# Altium schematic symbol library electromechanics.SchLib: 18 symbols
Pins are listed as number, name and electrical type; pins without a type are passive.

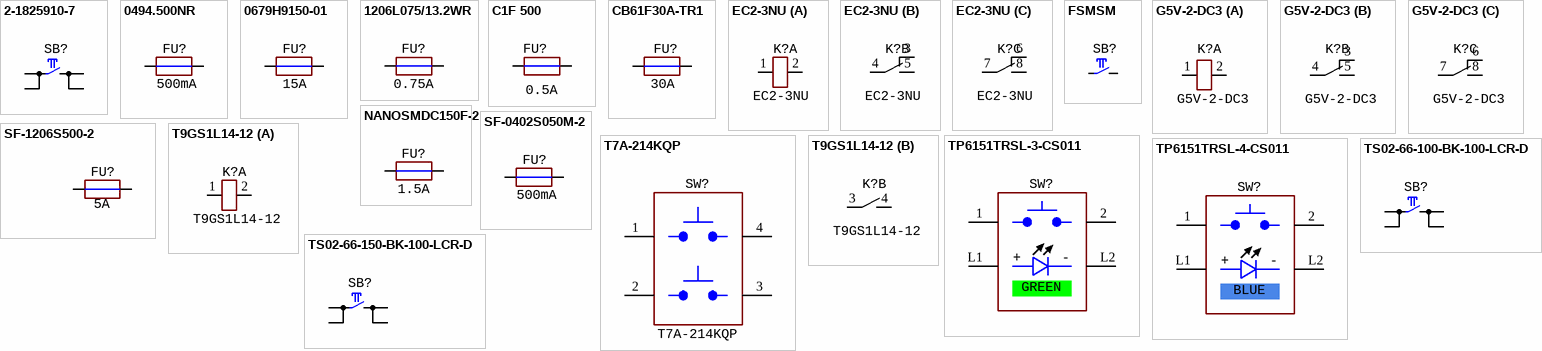
[diagram p0: symbols 2-1825910-7 to TS02-66-150-BK-100-LCR-D]

## 2-1825910-7
designator SB?  (value not drawn)
Tactile switch, OFF-(ON), 24VDC, 50 mA, 4 pins, 6x6x13 mm, -35...+85°C; Manufacturer: TE Connectivity / P&B; PartNumber: 2-1825910-7; Package: 4 pins, 6x6x13 mm; HelpURL: https://eu.mouser.com/ProductDetail/TE-Connectivity-PB/2-1825910-7?qs=epcAG6di8szpGFLvuwXKeQ%3D%3D
footprint 2-1825910-7 (Tactile switch, 6x6x13 mm)
pins: 1, 2, 3, 4

## 0494.500NR
designator FU?  value 500mA  (hidden comment: 0494.500NR)
0.5A, 32VDC, 187 mOhms, 0603, Slow, -55...125°C; Manufacturer: Littelfuse; Package: 0603; HelpURL: https://eu.mouser.com/ProductDetail/Littelfuse/0494.500NR?qs=zMpzAB%2FftDebMnrtAtzh%2Fg%3D%3D; PartNumber: 0494.500NR
footprint FUSE: 0603
pins: 1, 2

## 0679H9150-01
designator FU?  value 15A  (hidden comment: 0679H9150-01)
15A, 60VDC, 350VAC, 3.8 mOhms, -55...125°C; Manufacturer: BelFuse; Manufacturer: Bel; Package: 0679H series; HelpURL: 0679H9150-01; PartNumber: 0679H9150-01; Manufacturer Part Number: 0679H9150-01; Component Type: Electromechanics
footprint FUSE: 0679H (BelFuse)
pins: 1, 2

## 1206L075/13.2WR
designator FU?  value 0.75A  (hidden comment: 1206L075/13.2WR)
0.75A, 13.2VDC, 360 mOhms, 1206, Slow, -40...+85°C; Manufacturer: Littelfuse; HelpURL: https://www.mouser.com/ProductDetail/Littelfuse/1206L075-132WR?qs=%2Fha2pyFaduhK%252Bl84tFG2XSiBEPpGZF7PYzCqzETuC54lnigXEfxIwg%3D%3D; Package: 1206; PartNumber: 1206L075/13.2WR; Manufacturer Part Number: 1206L075/13.2WR; Component Type: Electromechanics
footprint RES: 1206
pins: 1, 2

## C1F 500
designator FU?  value 0.5A  (hidden comment: C1F 500)
0.5A, 63VDC, 870 mOhms, 1206, Fast, -55...+125°C; Manufacturer: BelFuse; Manufacturer: Bel TRP; Manufacturer Part Number: C1F500; PartNumber: C1F 500; HelpURL: https://www.mouser.com/ProductDetail/Bel-Fuse/C1F-500?qs=Mr%252BgrRYddfqgOaBmuwV7nw%3D%3D; Package: 1206; Component Type: Electromechanics
footprint RES: 1206
pins: 1, 2

## CB61F30A-TR1
designator FU?  value 30A  (hidden comment: CB61F30A-TR1)
30A, 72VDC, case 6125, 1.2 mOhms, -55...125°C; Manufacturer: BelFuse; Manufacturer: Eaton; HelpURL: https://ru.mouser.com/ProductDetail/Bussmann-Eaton/CB61F30A-TR1?qs=%2Fha2pyFaduhZ8syog3SXXsNAejvap9oNMolxmXBxMmhfxsW4SuEbow%3D%3D; PartNumber: CB61F30A-TR1; Package: 6125 (2410); Manufacturer Part Number: CB61F30A-TR1; Component Type: Electromechanics
footprint FUSE: 6125 (2410)
pins: 1, 2

## EC2-3NU
designator K?
Relay, 2 x NO/NC, 2A, signal 3VDC, -40...+85°C; Manufacture: Kemet; Parameter 1: series EC2; HelpURL: https://eu.mouser.com/ProductDetail/KEMET/EC2-3NU?qs=BenOyfdfArqdYN3QfNTTFA%3D%3D; PartNumber: EC2-3NU
footprint REL: EC2-3NU
part A pins: 1, 2
part B pins: 3, 4, 5
part C pins: 6, 7, 8

## FSMSM
designator SB?  (value not drawn)
Button, 6x3.5 mm, 12VDC, 50mA; Manufacturer: TE Connectivity; Manufacturer: TE Connectivity Alcoswitch; PartNumber: FSMSM; Package: 6x3.5 mm; HelpURL: https://ru.mouser.com/ProductDetail/TE-Connectivity-Alcoswitch/FSMSM?qs=UhRTNahLC3yPLf3YjzjKAA%3D%3D; Manufacturer Part Number: FSMSM; Component Type: Electromechanics
footprint BUT: 6x3.5 SMD
pins: 1, 2

## G5V-2-DC3
designator K?
Relay, 2 x NO/NC, 2A, signal 3VDC, -40...+85°C; Manufacture: Omron; HelpURL: https://eu.mouser.com/ProductDetail/Omron-Electronics/G5V-2-DC3?qs=wg6chLqwgwqby6W2klCjkg%3D%3D; Package: series G5V-2; PartNumber: G5V-2-DC3
footprint REL: OMRON_G5V (Omron G5V relay)
part A pins: 1, 2
part B pins: 3, 4, 5
part C pins: 6, 7, 8

## NANOSMDC150F-2
designator FU?  value 1.5A  (hidden comment: NANOSMDC150F-2)
1.5A, 6VDC, 110 mOhms, 1206, Slow, -40...+85°C; Manufacturer: Littelfuse; Package: 1206; PartNumber: NANOSMDC150F-2; HelpURL: https://www.mouser.com/ProductDetail/Littelfuse/NANOSMDC150F-2?qs=k5V78Jg%2Feq53QwL8uU%2Ff4w%3D%3D; Manufacturer Part Number: NANOSMDC150F-2; Component Type: Electromechanics
footprint RES: 1206
pins: 1, 2

## SF-0402S050M-2
designator FU?  value 500mA  (hidden comment: SF-0402S050M-2)
0.5A, 24VDC, 380 mOhms, 0402, Slow, -55...125°C; Manufacturer: Bourns; Package: 0402; HelpURL: https://ru.mouser.com/ProductDetail/Bourns/SF-0402S050M-2?qs=rrS6PyfT74cYjOaCEEtq8Q%3D%3D; PartNumber: SF-0402S050M-2; Manufacturer Part Number: SF-0402S050M-2; Component Type: Electromechanics
footprint RES: 0402
pins: 1, 2

## SF-1206S500-2
designator FU?  value 5A  (hidden comment: SF-1206S500-2)
5A, 24VDC, 13 mOhms, 1206, Slow, -20...120°C; Manufacturer: Bourns; Package: 1206; PartNumber: SF-1206S500-2; HelpURL: https://ru.mouser.com/ProductDetail/Bourns/SF-1206S500-2?qs=GIQXYiEeHGD%252By2V9Xr7ztw%3D%3D; Manufacturer Part Number: SF-1206S500-2; Component Type: Electromechanics
footprint RES: 1206
pins: 1, 2

## T7A-214KQP
designator SW?
Button, double, 4 pins, 12V, 50mA, -20...+70°C; Manufacturer: Diptronics; Package: 4 pins; HelpURL: https://ru.mouser.com/ProductDetail/Diptronics/T7A-214KQP?qs=MLItCLRbWswC0uYj9pHgvg%3D%3D; PartNumber: T7A-214KQP; Manufacturer Part Number: T7A-214KQP; Component Type: Electromechanics
footprint BUT: T7A-214KQP
pins: 1, 2, 3, 4

## T9GS1L14-12
designator K?
Relay, 480VAC, 30A, signal 12VDC, 1 x NO, -40...+85°C; Manufacture: TE; HelpURL: https://eu.mouser.com/ProductDetail/TE-Connectivity-PB/T9GS1L14-12?qs=5aG0NVq1C4zDVnant0wK4g%3D%3D; Package: series T9GS1L14; PartNumber: T9GS1L14-12
footprint REL: T9GS1
part A pins: 1, 2
part B pins: 3, 4

## TP6151TRSL-3-CS011
designator SW?  (value not drawn)
Button, 4 pins, Green LED, 5V, 20mA, -25...+70°C; Manufacturer: Highly; HelpURL: http://www.highly.com/highly/pdf/tp6151.pdf; PartNumber: TP6151TRSL-3-CS011; Package: 4 pins; Component Type: Electromechanics
footprint BUT: TP6151TRSL-3-CS011
pins: 1, 2, L1, L2
text: +; -; GREEN

## TP6151TRSL-4-CS011
designator SW?  (value not drawn)
Button, 4 pins, Blue LED, 5V, 20mA, -25...+70°C; Manufacturer: Highly; PartNumber: TP6151TRSL-4-CS011; HelpURL: http://www.highly.com/highly/pdf/tp6151.pdf; Package: 4 pins; Component Type: Electromechanics
footprint BUT: TP6151TRSL-4-CS011
pins: 1, 2, L1, L2
text: +; -; BLUE

## TS02-66-100-BK-100-LCR-D
designator SB?  (value not drawn)
Tactile switch, OFF-(ON), 12VDC, 50 mA, 4 pins, 6x6x10 mm, -30...+80°C; Manufacturer: CUI Devices; PartNumber: TS02-66-100-BK-100-LCR-D; Package: 4 pins, 6x6x10 mm; HelpURL: https://eu.mouser.com/ProductDetail/CUI-Devices/TS02-66-100-BK-100-LCR-D?qs=A6eO%252BMLsxmScbdzBUJ6qsw%3D%3D
footprint TS02-66-100-BK-100-LCR-D (Tactile switch, 6x6x10 mm)
pins: 1, 2, 3, 4

## TS02-66-150-BK-100-LCR-D
designator SB?  (value not drawn)
Tactile switch, OFF-(ON), 12VDC, 50 mA, 4 pins, 6x6x15 mm, -30...+80°C; Manufacturer: CUI Devices; PartNumber: TS02-66-150-BK-100-LCR-D; Package: 4 pins, 6x6x15 mm; HelpURL: https://eu.mouser.com/ProductDetail/CUI-Devices/TS02-66-150-BK-100-LCR-D?qs=A6eO%252BMLsxmTmMEK2h9yrsA%3D%3D
footprint TS02-66-150-BK-100-LCR-D (Tactile switch, 6x6x15 mm)
pins: 1, 2, 3, 4